# Altium schematic symbol library AD7997-SMD20P.Schlib: 1 symbol
Pins are listed as number, name and electrical type; pins without a type are passive.

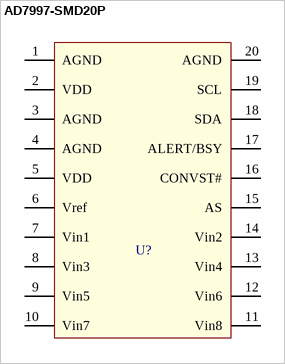
[diagram p0: symbol AD7997-SMD20P]

## AD7997-SMD20P
designator U?  (value not drawn)
pins: 1 AGND, 2 VDD, 3 AGND, 4 AGND, 5 VDD, 6 Vref, 7 Vin1, 8 Vin3, 9 Vin5, 10 Vin7, 11 Vin8, 12 Vin6, 13 Vin4, 14 Vin2, 15 AS, 16 CONVST#, 17 ALERT/BSY, 18 SDA, 19 SCL, 20 AGND